# EAGLE library part HUZZAH-ESP8266 (library OPNpool)
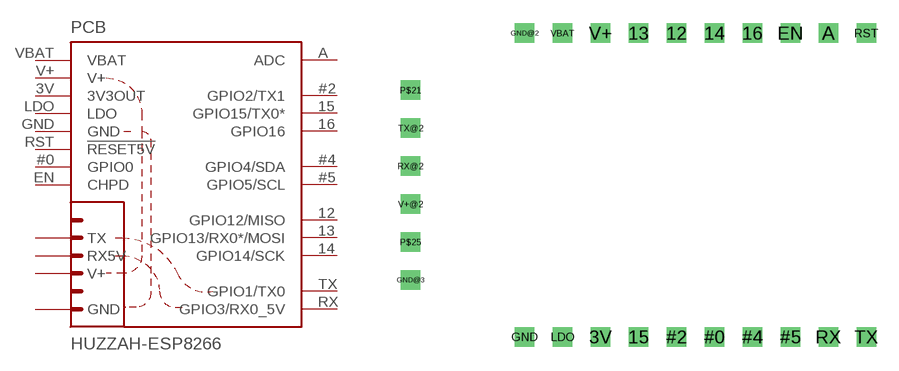
[diagram p7: symbol with the pads of HUZZAH-ESP8266-DUMMY; footprint HUZZAH-ESP8266-DUMMY]

Designator prefix PCB

## HUZZAH-ESP8266  [HUZZAH-ESP8266-DUMMY]
3V  3V3OUT  pwr
12  GPIO12/MISO
13  GPIO13/RX0*/MOSI
14  GPIO14/SCK
15  GPIO15/TX0*
16  GPIO16
#0  GPIO0
#2  GPIO2/TX1
#4  GPIO4/SDA
#5  GPIO5/SCL
A  ADC  in
EN  CHPD  pas
GND  GND  pwr
GND@3  GND  pwr
LDO  LDO  in
RST  !RESET5V  in
RX  GPIO3/RX0_5V  in
RX@2  RX5V  in
TX  GPIO1/TX0  out
TX@2  TX  out
V+  V+  pwr
V+@2  V+  pwr
VBAT  VBAT  pwr

## Footprint HUZZAH-ESP8266-DUMMY (pad centres in mm)
drill 0.8 square: 3V -7.62,-12.7; 12 -2.54,7.62; 13 -5.08,7.62; 14 0,7.62; 15 -5.08,-12.7; 16 2.54,7.62; #0 0,-12.7; #2 -2.54,-12.7; #4 2.54,-12.7; #5 5.08,-12.7; A 7.62,7.62; EN 5.08,7.62; GND -12.7,-12.7; GND@2 -12.7,7.62; GND@3 -20.32,-8.89; LDO -10.16,-12.7; P$21 -20.32,3.81; P$25 -20.32,-6.35; RST 10.16,7.62; RX 7.62,-12.7; RX@2 -20.32,-1.27; TX 10.16,-12.7; TX@2 -20.32,1.27; V+ -7.62,7.62; V+@2 -20.32,-3.81; VBAT -10.16,7.62